# Altium footprint library CC0805KKX7R6BB106.PcbLib: 4 footprints
Each footprint in its own frame and in the unit in brackets; x right, y up, seen from the top. Pads: shape width x height; smd on the part's side, far side on the other; paste and mask are expansions set on the pad; w line width, h text height; cw(c..) or ccw(c..) is an arc to the next point about the centre after c.
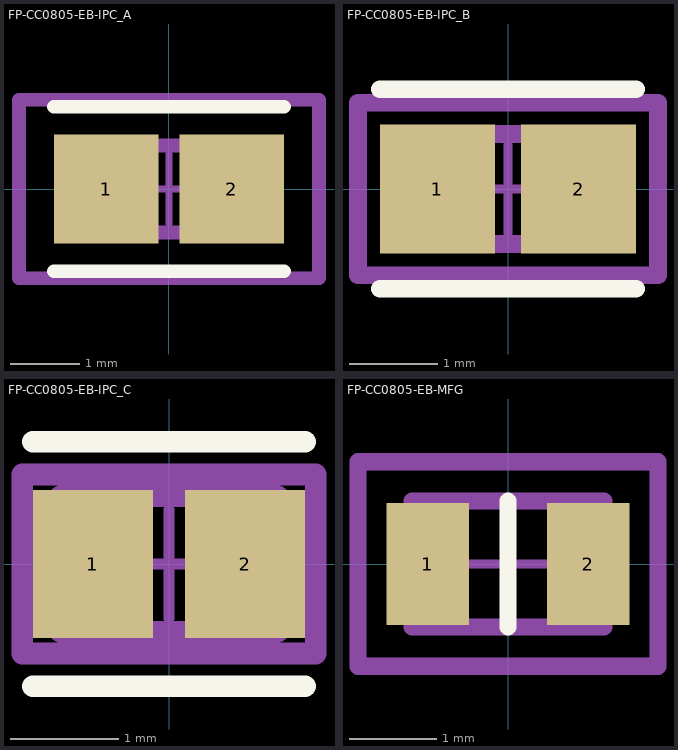
[diagram p0: the footprints below, top view; thin cyan lines are the x and y axes]

## FP-CC0805-EB-IPC_A [mil]
pads (2):
  rect 59.24x61.5 smd paste+0 mask+0: 1(-35.46,0) 2(35.46,0)
Top Overlay:
  lines w7.87: -65.08,-46.5 65.08,-46.5 ; -65.08,46.5 65.08,46.5
Top Assembly:
  lines w7.87: -84.77,-50.44 84.77,-50.44 84.77,50.44 -84.77,50.44 -84.77,-50.44
  text ".Designator" at 0,7.39 h39.37
Top 3D Body:
  lines w7.87: -39.37,-24.61 39.37,-24.61 39.37,24.61 -39.37,24.61 -39.37,-24.61
Top Courtyard:
  lines w7.87: -84.77,-50.44 84.77,-50.44 84.77,50.44 -84.77,50.44 -84.77,-50.44
Top Component Center:
  lines w3.94: -19.68,0 19.68,0 ; 0,-19.68 0,19.68
3D body "Cap_Yageo_CC0805KKX7R5BB105_eec.STEP": height 10, standoff 0, extent -84.77,-50.44 84.77,50.44

## FP-CC0805-EB-IPC_B [mm]
pads (2):
  rect 1.305x1.462 smd paste+0 mask+0: 1(-0.801,0) 2(0.801,0)
Top Overlay:
  lines w0.2: -1.453,-1.131 1.453,-1.131 ; -1.453,1.131 1.453,1.131
Top Assembly:
  lines w0.2: -1.703,-0.981 1.703,-0.981 1.703,0.981 -1.703,0.981 -1.703,-0.981
  text ".Designator" at 0,0.188 h1
Top 3D Body:
  lines w0.2: -1,-0.625 1,-0.625 1,0.625 -1,0.625 -1,-0.625
Top Courtyard:
  lines w0.2: -1.703,-0.981 1.703,-0.981 1.703,0.981 -1.703,0.981 -1.703,-0.981
Top Component Center:
  lines w0.1: -0.5,0 0.5,0 ; 0,-0.5 0,0.5
3D body "Cap_Yageo_CC0805KKX7R5BB105_eec.STEP": height 0.25, standoff 0, extent -1.703,-0.981 1.703,0.981

## FP-CC0805-EB-IPC_C [mm]
pads (2):
  rect 1.105x1.362 smd paste+0 mask+0: 1(-0.701,0) 2(0.701,0)
Top Overlay:
  lines w0.2: -1.253,-1.125 1.253,-1.125 ; -1.253,1.125 1.253,1.125
Top Assembly:
  lines w0.2: -1.353,-0.825 1.353,-0.825 1.353,0.825 -1.353,0.825 -1.353,-0.825
  text ".Designator" at 0,0.188 h1
Top 3D Body:
  lines w0.2: -1,-0.625 1,-0.625 1,0.625 -1,0.625 -1,-0.625
Top Courtyard:
  lines w0.2: -1.353,-0.825 1.353,-0.825 1.353,0.825 -1.353,0.825 -1.353,-0.825
Top Component Center:
  lines w0.1: -0.5,0 0.5,0 ; 0,-0.5 0,0.5
3D body "Cap_Yageo_CC0805KKX7R5BB105_eec.STEP": height 0.25, standoff 0, extent -1.353,-0.825 1.353,0.825

## FP-CC0805-EB-MFG [mm]
pads (2):
  rect 0.95x1.4 smd paste+0 mask+0: 1(-0.925,0) 2(0.925,0)
Top Overlay:
  lines w0.2: 0,-0.725 0,0.725
Top Assembly:
  lines w0.2: -1.725,-1.175 1.725,-1.175 1.725,1.175 -1.725,1.175 -1.725,-1.175
  text ".Designator" at 0,-0.001 h1
Top 3D Body:
  lines w0.2: -1.1,-0.725 1.1,-0.725 1.1,0.725 -1.1,0.725 -1.1,-0.725
Top Courtyard:
  lines w0.2: -1.725,-1.175 1.725,-1.175 1.725,1.175 -1.725,1.175 -1.725,-1.175
Top Component Center:
  lines w0.1: -0.5,0 0.5,0 ; 0,-0.5 0,0.5
3D body "Cap_Yageo_CC0805KKX7R5BB105_eec.STEP": height 0.25, standoff 0, extent -1.725,-1.175 1.725,1.175